# EAGLE library part INA219AID (library NEON-BLADE-2024-new)
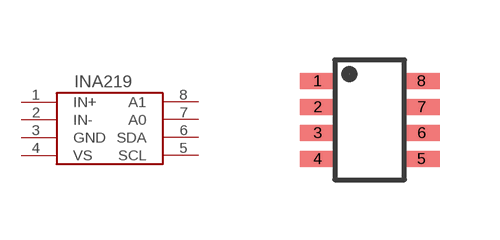
[diagram p1: symbol with the pads of SOT23-8; footprint SOT23-8]

Designator prefix -

## INA219AID  [SOT23-8]
1  IN+
2  IN-
3  GND
4  VS
5  SCL
6  SDA
7  A0
8  A1

## Footprint SOT23-8 (pad centres in mm)
smd 0.9 x 0.4: 1 -1.3,0.975; 2 -1.3,0.325; 3 -1.3,-0.325; 4 -1.3,-0.975; 5 1.3,-0.975; 6 1.3,-0.325; 7 1.3,0.325; 8 1.3,0.975